# Altium footprint library Led.PcbLib: 55 footprints (part 3 of 4)
Each footprint in its own frame and in the unit in brackets; x right, y up, seen from the top. Pads: shape width x height; smd on the part's side, far side on the other; paste and mask are expansions set on the pad; w line width, h text height; cw(c..) or ccw(c..) is an arc to the next point about the centre after c.
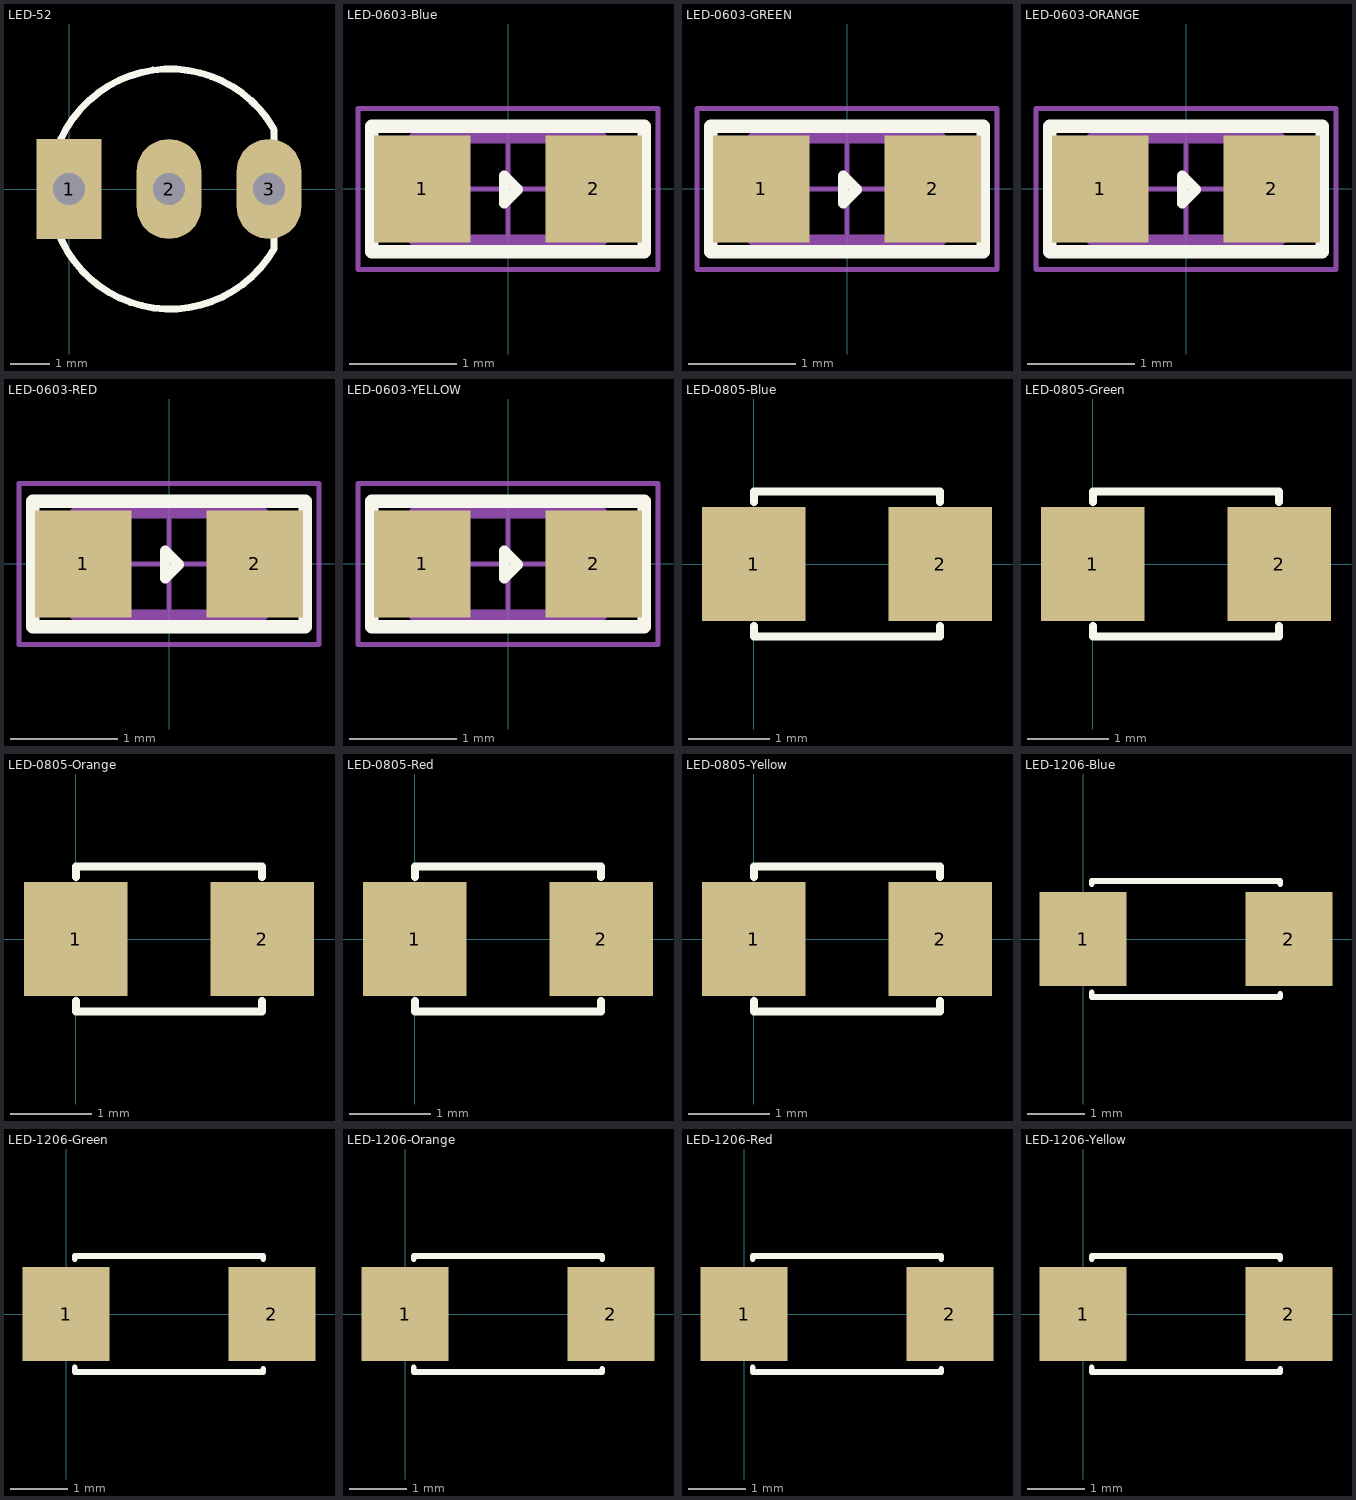
[diagram p2: the footprints below, top view; thin cyan lines are the x and y axes]

## LED-52 [mil] "LED 3 PIN, 5 ly , Two colour"
height 300
pads (3):
  rect 65x100 hole 32: 1(0,0)
  oval 65x100 hole 32: 2(100,0) 3(200,0)
Top Overlay:
  lines w7: 204.51,60.71 ccw(c101,0) 204.94,-59.97 ; 205,-59 205,59
3D body "User Library-5mmBiColorLED.step": height 426.6, standoff -102.4, extent -16,-115.98 210,115.98

## LED-0603-Blue [mm]
pads (2):
  rect 0.9x1 smd: 1(-0.8,0) 2(0.8,0)
Top Overlay:
  lines w0.1: -0.036,-0.133 -0.036,0.121 0.091,-0.006 -0.036,-0.133
  lines w0.127: -1.27,-0.584 1.27,-0.584 1.27,0.584 -1.27,0.584 -1.27,-0.584
Mechanical 13:
  lines w0.1: -0.875,-0.475 0.875,-0.475 0.875,0.475 -0.875,0.475 -0.875,-0.475
Mechanical 15:
  lines w0.05: -0.475,0 0.475,0 ; 0,-0.475 0,0.475 ; -1.397,-0.75 1.397,-0.75 1.397,0.75 -1.397,0.75 -1.397,-0.75
3D body "SMD_0603LED_BLUE.STEP": height 0.98, standoff 0.1, extent -0.808,-0.5 0.808,0.5

## LED-0603-GREEN [mm]
pads (2):
  rect 0.9x1 smd: 1(-0.8,0) 2(0.8,0)
Top Overlay:
  lines w0.1: -0.036,-0.133 0.091,-0.006 -0.036,0.121 -0.036,-0.133
  lines w0.127: -1.27,-0.584 -1.27,0.584 1.27,0.584 1.27,-0.584 -1.27,-0.584
Mechanical 13:
  lines w0.1: -0.875,-0.475 -0.875,0.475 0.875,0.475 0.875,-0.475 -0.875,-0.475
Mechanical 15:
  lines w0.05: -0.475,0 0.475,0 ; 0,-0.475 0,0.475 ; -1.397,-0.75 -1.397,0.75 1.397,0.75 1.397,-0.75 -1.397,-0.75
3D body "SMD_0603LED_GREEN.STEP": height 0.98, standoff 0.1, extent -0.808,-0.5 0.808,0.5

## LED-0603-ORANGE [mm]
pads (2):
  rect 0.9x1 smd: 1(-0.8,0) 2(0.8,0)
Top Overlay:
  lines w0.1: -0.036,-0.133 -0.036,0.121 0.091,-0.006 -0.036,-0.133
  lines w0.127: -1.27,-0.584 1.27,-0.584 1.27,0.584 -1.27,0.584 -1.27,-0.584
Mechanical 13:
  lines w0.1: -0.875,-0.475 0.875,-0.475 0.875,0.475 -0.875,0.475 -0.875,-0.475
Mechanical 15:
  lines w0.05: -0.475,0 0.475,0 ; 0,-0.475 0,0.475 ; -1.397,-0.75 1.397,-0.75 1.397,0.75 -1.397,0.75 -1.397,-0.75
3D body "LED0603_Orange.step": height 0.9, standoff 0, extent -0.85,-0.45 0.85,0.45

## LED-0603-RED [mm]
pads (2):
  rect 0.9x1 smd: 1(-0.8,0) 2(0.8,0)
Top Overlay:
  lines w0.1: -0.036,-0.133 0.091,-0.006 -0.036,0.121 -0.036,-0.133
  lines w0.127: -1.27,-0.584 -1.27,0.584 1.27,0.584 1.27,-0.584 -1.27,-0.584
Mechanical 13:
  lines w0.1: -0.875,-0.475 -0.875,0.475 0.875,0.475 0.875,-0.475 -0.875,-0.475
Mechanical 15:
  lines w0.05: -0.475,0 0.475,0 ; 0,-0.475 0,0.475 ; -1.397,-0.75 -1.397,0.75 1.397,0.75 1.397,-0.75 -1.397,-0.75
3D body "SMD_0603LED_RED.STEP": height 0.98, standoff 0.1, extent -0.808,-0.5 0.808,0.5

## LED-0603-YELLOW [mm]
pads (2):
  rect 0.9x1 smd: 1(-0.8,0) 2(0.8,0)
Top Overlay:
  lines w0.1: -0.036,-0.133 0.091,-0.006 -0.036,0.121 -0.036,-0.133
  lines w0.127: -1.27,-0.584 -1.27,0.584 1.27,0.584 1.27,-0.584 -1.27,-0.584
Mechanical 13:
  lines w0.1: -0.875,-0.475 -0.875,0.475 0.875,0.475 0.875,-0.475 -0.875,-0.475
Mechanical 15:
  lines w0.05: -0.475,0 0.475,0 ; 0,-0.475 0,0.475 ; -1.397,-0.75 -1.397,0.75 1.397,0.75 1.397,-0.75 -1.397,-0.75
3D body "SMD_0603LED_YEL.STEP": height 0.98, standoff 0.1, extent -0.808,-0.5 0.808,0.5

## LED-0805-Blue [mil]
pads (2):
  rect 50x55 smd: 1(0,0) 2(90,0)
Top Overlay:
  lines w4: 0,-30 0,-35 90,-35 90,-30 ; 0,30 0,35 90,35 90,30
3D body "User Library-led_0805-blue.step": height 43.31, standoff 0, extent 5.23,-24.61 84.76,24.6

## LED-0805-Green [mil]
pads (2):
  rect 50x55 smd: 1(0,0) 2(90,0)
Top Overlay:
  lines w4: 0,-30 0,-35 90,-35 90,-30 ; 0,30 0,35 90,35 90,30
3D body "User Library-led_0805-Green.step": height 43.31, standoff 0, extent 5.24,-24.6 84.76,24.6

## LED-0805-Orange [mil]
pads (2):
  rect 50x55 smd: 1(0,0) 2(90,0)
Top Overlay:
  lines w4: 0,-30 0,-35 90,-35 90,-30 ; 0,30 0,35 90,35 90,30
3D body "User Library-led_0805-orange.step": height 43.31, standoff 0, extent 5.24,-24.6 84.77,24.61

## LED-0805-Red [mil]
pads (2):
  rect 50x55 smd: 1(0,0) 2(90,0)
Top Overlay:
  lines w4: 0,-30 0,-35 90,-35 90,-30 ; 0,30 0,35 90,35 90,30
3D body "User Library-led_0805-red.step": height 43.31, standoff 0, extent 5.24,-24.6 84.77,24.61

## LED-0805-Yellow [mil]
pads (2):
  rect 50x55 smd: 1(0,0) 2(90,0)
Top Overlay:
  lines w4: 0,-30 0,-35 90,-35 90,-30 ; 0,30 0,35 90,35 90,30
3D body "User Library-led_0805-yellow.step": height 43.31, standoff 0, extent 5.24,-24.6 84.77,24.61

## LED-1206-Blue [mil] "Compoment SMD 120x60mil"
height 50
pads (2):
  rect 60x65 smd: 1(0,0) 2(142,0)
Top Overlay:
  lines w4: 6,-37 6,-40 136,-40 136,-38 ; 6,38 6,40 136,40 136,38
3D body "User Library-led_1206-blue.step": height 43.31, standoff 0, extent 6.62,-31.49 133.39,31.5

## LED-1206-Green [mil]
pads (2):
  rect 60x65 smd: 1(0,0) 2(142,0)
Top Overlay:
  lines w4: 6,-37 6,-40 136,-40 136,-38 ; 6,38 6,40 136,40 136,38
3D body "User Library-led_1206-green.step": height 43.31, standoff 0, extent 6.61,-31.5 133.39,31.5

## LED-1206-Orange [mil]
pads (2):
  rect 60x65 smd: 1(0,0) 2(142,0)
Top Overlay:
  lines w4: 6,-37 6,-40 136,-40 136,-38 ; 6,38 6,40 136,40 136,38
3D body "User Library-led_1206-yellow.step": height 43.31, standoff 0, extent 6.62,-31.49 133.39,31.5

## LED-1206-Red [mil]
pads (2):
  rect 60x65 smd: 1(0,0) 2(142,0)
Top Overlay:
  lines w4: 6,-37 6,-40 136,-40 136,-38 ; 6,38 6,40 136,40 136,38
3D body "User Library-led_1206-red.step": height 43.31, standoff 0, extent 6.62,-31.49 133.39,31.5

## LED-1206-Yellow [mil]
pads (2):
  rect 60x65 smd: 1(0,0) 2(142,0)
Top Overlay:
  lines w4: 6,-37 6,-40 136,-40 136,-38 ; 6,38 6,40 136,40 136,38
3D body "User Library-led_1206-yellow.step": height 43.31, standoff 0, extent 6.61,-31.5 133.39,31.5